# EAGLE library part T1M-10-XX-S-RA (library Audioptics_Connectors)
1MM RIGHT ANGLE TERMINAL STRIP.
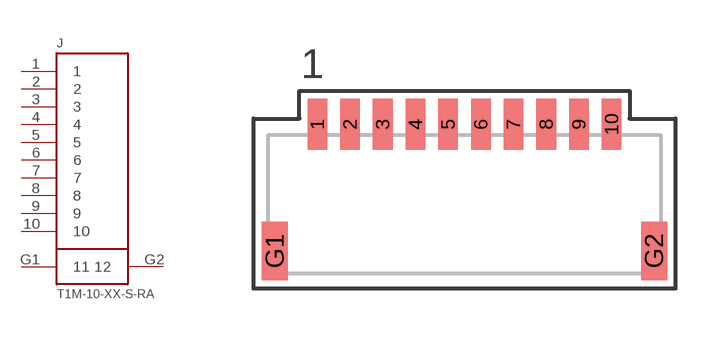
[diagram p1: symbol with the pads of T1M-10-XX-S-RA; footprint T1M-10-XX-S-RA]

Designator prefix J

## T1M-10-XX-S-RA  [T1M-10-XX-S-RA]
1  1
2  2
3  3
4  4
5  5
6  6
7  7
8  8
9  9
10  10
G1  11
G2  12

## Footprint T1M-10-XX-S-RA (pad centres in mm)
1MM RIGHT ANGLE TERMINAL STRIP.
smd 0.6 x 1.55: 1 -4.5,-0.775; 2 -3.5,-0.775; 3 -2.5,-0.775; 4 -1.5,-0.775; 5 -0.5,-0.775; 6 0.5,-0.775; 7 1.5,-0.775; 8 2.5,-0.775; 9 3.5,-0.775; 10 4.5,-0.775
smd 0.8 x 1.8: G1 -5.8,-4.65; G2 5.8,-4.65